# Altium footprint library axsem_actives_v1-9.PCBLIB: 17 footprints (part 1 of 2)
Each footprint in its own frame and in the unit in brackets; x right, y up, seen from the top. Pads: shape width x height; smd on the part's side, far side on the other; paste and mask are expansions set on the pad; w line width, h text height; cw(c..) or ccw(c..) is an arc to the next point about the centre after c.
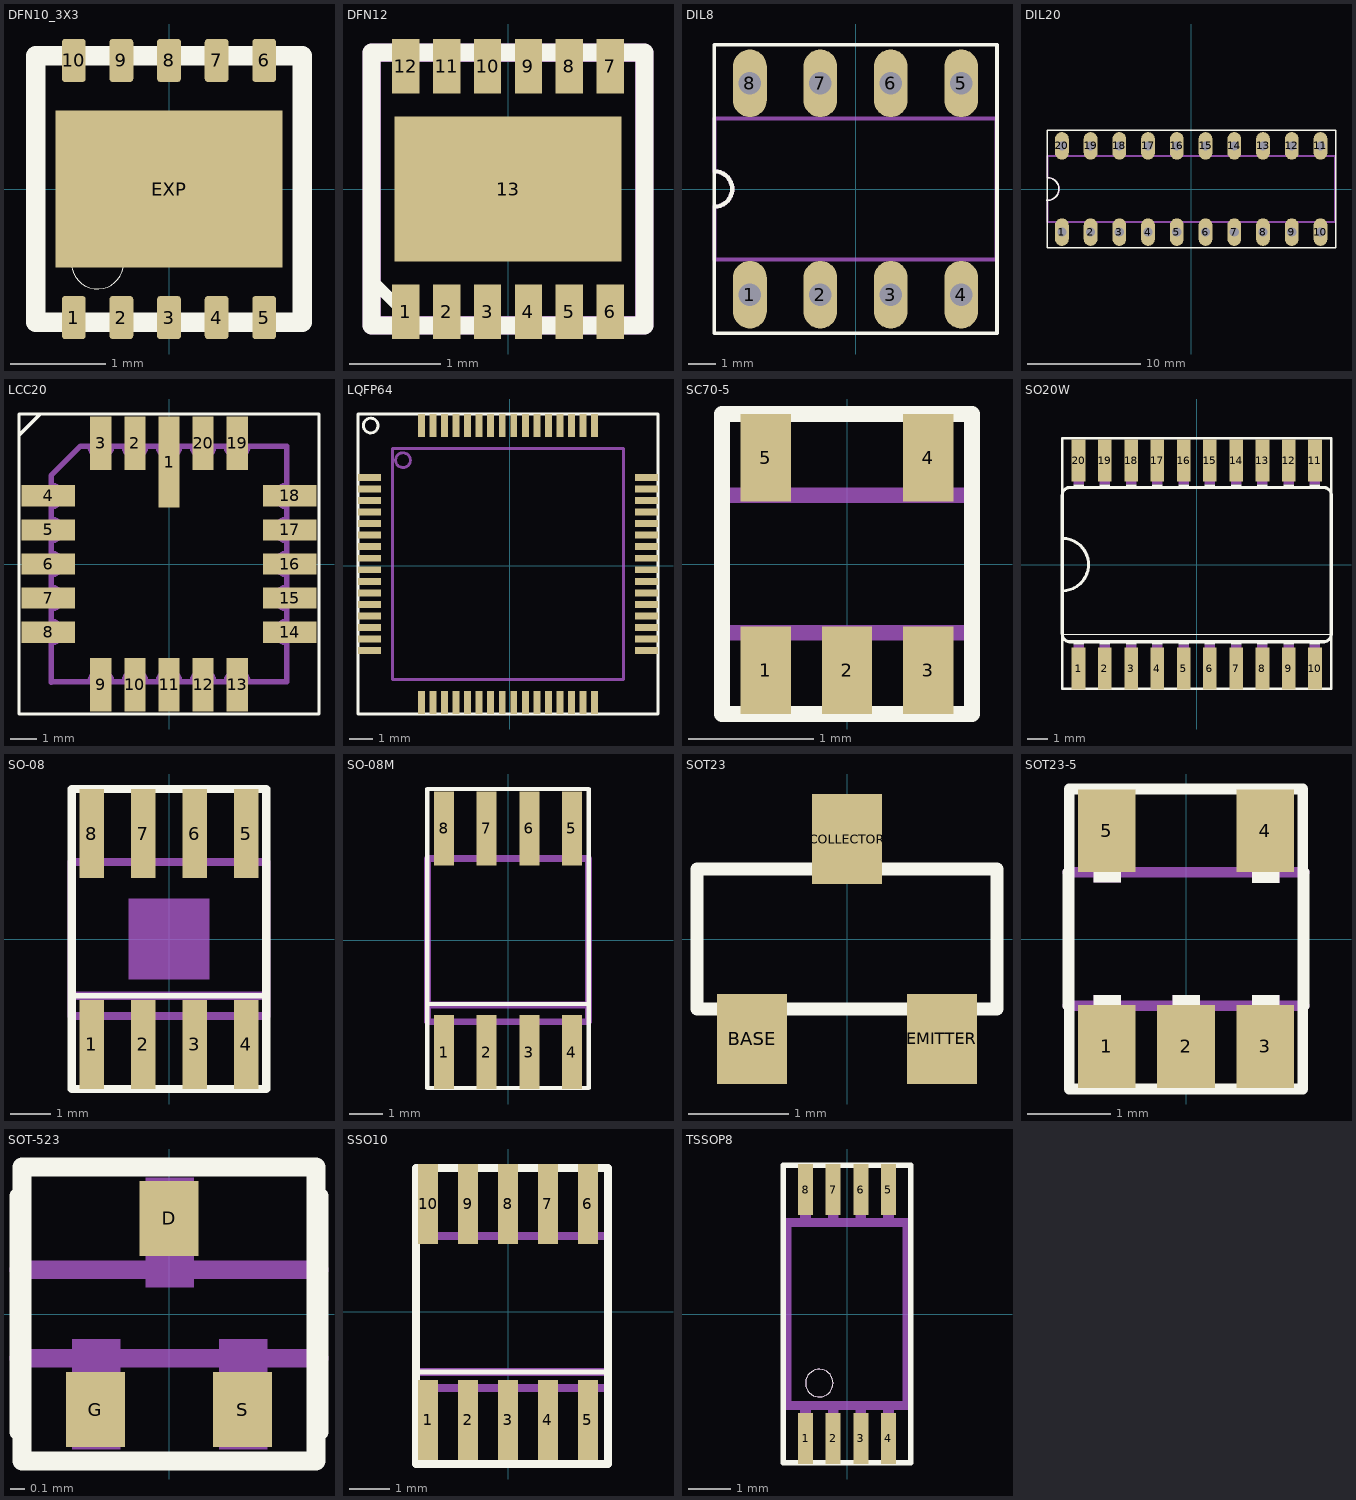
[diagram p0: the footprints below, top view; thin cyan lines are the x and y axes]

## DFN10_3X3 [mm]
pads (11):
  rrect25% 0.25x0.45 smd: 1(-1,-1.35) 2(-0.5,-1.35) 3(0,-1.35) 4(0.5,-1.35) 5(1,-1.35) 6(1,1.35) 7(0.5,1.35) 8(0,1.35) 9(-0.5,1.35) 10(-1,1.35)
  rect 2.38x1.65 smd: EXP(0,0)
Top Overlay:
  circle w0: c-0.75,-0.775 r0.275
  lines w0.203: -1.4,-1.4 -1.4,1.4 1.4,1.4 1.4,-1.4 -1.4,-1.4

## DFN12 [mm]
pads (13):
  rect 0.3x0.6 smd: 1(-1.125,-1.35) 2(-0.675,-1.35) 3(-0.225,-1.35) 4(0.225,-1.35) 5(0.675,-1.35) 6(1.125,-1.35) 7(1.125,1.35) 8(0.675,1.35) 9(0.225,1.35) 10(-0.225,1.35) 11(-0.675,1.35) 12(-1.125,1.35)
  rect 2.5x1.6 smd: 13(0,0)
Top Overlay:
  lines w0.127: -1.5,-1 -1,-1.5
  lines w0.2: -1.5,-1.5 -1,-1.5 1.5,-1.5 1.5,1.5 -1.5,1.5 -1.5,-1 -1.5,-1.5
Mechanical 16:
  lines w0.203: -1.5,-1.5 -1.5,1.5 1.5,1.5 1.5,-1.5 -1.5,-1.5

## DIL8 [mil]
pads (8):
  oval 48x96 hole 32: 1(-150,-150) 2(-50,-150) 3(50,-150) 4(150,-150) 5(150,150) 6(50,150) 7(-50,150) 8(-150,150)
Top Overlay:
  lines w5: -200.79,-204.72 200.79,-204.72 200.79,204.72 -200.79,204.72 -200.79,-204.72
  lines w6: -200,-25 ccw(c-200,0) -200,25
Mechanical 16:
  lines w6: -200,-100 -200,-25 ccw(c-200,0) -200,25 -200,100 200,100 200,-100 -200,-100

## DIL20 [mil]
pads (20):
  oval 48x96 hole 32: 1(-450,-150) 2(-350,-150) 3(-250,-150) 4(-150,-150) 5(-50,-150) 6(50,-150) 7(150,-150) 8(250,-150) 9(350,-150) 10(450,-150) 11(450,150) 12(350,150) 13(250,150) 14(150,150) 15(50,150) 16(-50,150) 17(-150,150) 18(-250,150) 19(-350,150) 20(-450,150)
Top Overlay:
  lines w5: -503.94,-39.37 ccw(c-500.01,-0.1) -500,39.37 ; -500,39.37 -500,-204.72 503.94,-204.72 503.94,204.72 -500,204.72 -500,39.37
Mechanical 16:
  lines w6: -500,-115 500,-115 500,115 -500,115 -500,40 cw(c-500,0) -500,-40 -500,-115

## LCC20 [mil]
pads (20):
  rect 31.5x133.86 smd: 1(0,149.61)
  rect 31.5x78.74 smd: 2(-50,177.17) 3(-100,177.17) 9(-100,-177.17) 10(-50,-177.17) 11(0,-177.17) 12(50,-177.17) 13(100,-177.17) 19(100,177.17) 20(50,177.17)
  rect 78.74x31.5 smd: 4(-177.17,100) 5(-177.17,50) 6(-177.17,0) 7(-177.17,-50) 8(-177.17,-100) 14(177.17,-100) 15(177.17,-50) 16(177.17,0) 17(177.17,50) 18(177.17,100)
Top Overlay:
  lines w5: -220.47,188.98 -220.47,220.47 -188.98,220.47 ; -220.47,188.98 -220.47,-220.47 220.47,-220.47 220.47,220.47 -188.98,220.47 ; -220.47,188.98 -188.98,220.47
Mechanical 16:
  lines w8: -173.23,-173.62 -173.23,-173.23 ; -173.23,-115.75 -173.23,-173.23 ; -173.23,-84.25 -173.23,-65.75 ; -173.23,-34.25 -173.23,-15.75 ; -173.23,15.75 -173.23,34.25 ; -173.23,65.75 -173.23,84.25 ; -173.23,115.75 -173.23,129.92 -129.92,173.23 -115.75,173.23 ; -173.17,-115.75 ccw(c-173.17,-100) -173.17,-84.25 ; -173.17,-65.75 ccw(c-173.17,-50) -173.17,-34.25 ; -173.17,-15.75 ccw(c-173.17,0) -173.17,15.75 ; -173.17,34.25 ccw(c-173.17,50) -173.17,65.75 ; -173.17,84.25 ccw(c-173.17,100) -173.17,115.75 ; -115.75,-173.23 -173.23,-173.23 ; -115.75,-173.17 cw(c-100,-173.17) -84.25,-173.17 ; -115.75,173.17 ccw(c-100,173.17) -84.25,173.17 ; -84.25,-173.23 -65.75,-173.23 ; -84.25,173.23 -65.75,173.23 ; -65.75,-173.17 cw(c-50,-173.17) -34.25,-173.17 ; -65.75,173.17 ccw(c-50,173.17) -34.25,173.17 ; -34.25,-173.23 -15.75,-173.23 ; -34.25,173.23 -15.75,173.23 ; -15.75,-173.17 cw(c0,-173.17) 15.75,-173.17 ; -15.75,173.17 ccw(c0,173.17) 15.75,173.17 ; 15.75,-173.23 34.25,-173.23 ; 15.75,173.23 34.25,173.23 ; 34.25,-173.17 cw(c50,-173.17) 65.75,-173.17 ; 34.25,173.17 ccw(c50,173.17) 65.75,173.17 ; 65.75,-173.23 84.25,-173.23 ; 65.75,173.23 84.25,173.23 ; 84.25,-173.17 cw(c100,-173.17) 115.75,-173.17 ; 84.25,173.17 ccw(c100,173.17) 115.75,173.17 ; 115.75,-173.23 173.23,-173.23 173.23,-115.75 ; 115.75,173.23 173.23,173.23 173.23,115.75 ; 173.17,-115.75 cw(c173.17,-100) 173.17,-84.25 ; 173.17,-65.75 cw(c173.17,-50) 173.17,-34.25 ; 173.17,-15.75 cw(c173.17,0) 173.17,15.75 ; 173.17,34.25 cw(c173.17,50) 173.17,65.75 ; 173.17,84.25 cw(c173.17,100) 173.17,115.75 ; 173.23,-84.25 173.23,-65.75 ; 173.23,-34.25 173.23,-15.75 ; 173.23,15.75 173.23,34.25 ; 173.23,65.75 173.23,84.25

## LQFP64 [mm]
pads (64):
  rect 1x0.3 smd: P1(-6.08,3.83) P2(-6.08,3.33) P3(-6.08,2.83) P4(-6.08,2.33) P5(-6.08,1.83) P6(-6.08,1.33) P7(-6.08,0.83) P8(-6.08,0.33) P9(-6.08,-0.17) P10(-6.08,-0.67) P11(-6.08,-1.17) P12(-6.08,-1.67) P13(-6.08,-2.17) P14(-6.08,-2.67) P15(-6.08,-3.17) P16(-6.08,-3.67) P33(5.92,-3.67) P34(5.92,-3.17) P35(5.92,-2.67) P36(5.92,-2.17) P37(5.92,-1.67) P38(5.92,-1.17) P39(5.92,-0.67) P40(5.92,-0.17) P41(5.92,0.33) P42(5.92,0.83) P43(5.92,1.33) P44(5.92,1.83) P45(5.92,2.33) P46(5.92,2.83) P47(5.92,3.33) P48(5.92,3.83)
  rect 0.3x1 smd: P17(-3.83,-5.92) P18(-3.33,-5.92) P19(-2.83,-5.92) P20(-2.33,-5.92) P21(-1.83,-5.92) P22(-1.33,-5.92) P23(-0.83,-5.92) P24(-0.33,-5.92) P25(0.17,-5.92) P26(0.67,-5.92) P27(1.17,-5.92) P28(1.67,-5.92) P29(2.17,-5.92) P30(2.67,-5.92) P31(3.17,-5.92) P32(3.67,-5.92) P49(3.67,6.08) P50(3.17,6.08) P51(2.67,6.08) P52(2.17,6.08) P53(1.67,6.08) P54(1.17,6.08) P55(0.67,6.08) P56(0.17,6.08) P57(-0.33,6.08) P58(-0.83,6.08) P59(-1.33,6.08) P60(-1.83,6.08) P61(-2.33,6.08) P62(-2.83,6.08) P63(-3.33,6.08) P64(-3.83,6.08)
Top Overlay:
  circle w0.127: c-6.03,6.08 r0.32
  lines w0.127: -6.58,-6.42 6.42,-6.42 6.42,6.58 -6.58,6.58 -6.58,-6.42
Mechanical 16:
  circle w0.127: c-4.63,4.58 r0.32
  lines w0.127: -5.08,-4.92 -5.08,5.08 4.92,5.08 4.92,-4.92 -5.08,-4.92

## SC70-5 [mm]
pads (5):
  rect 0.4x0.7 smd: 1(-0.65,-0.85) 2(0,-0.85) 3(0.65,-0.85) 4(0.65,0.85) 5(-0.65,0.85)
Top Overlay:
  lines w0.127: -1,-0.55 -1,0.55 ; -0.6,-1 -0.6,-0.7 ; -0.6,0.6 -0.6,0.9 ; 0,-1 0,-0.7 ; 0.6,-1 0.6,-0.7 ; 0.6,0.6 0.6,0.9 ; 1,-0.55 1,0.55 ; -1,-1.2 -1,1.2 1,1.2 1,-1.2 -1,-1.2
Mechanical 16:
  rectangle: -0.125,-1.05 0.125,-0.6
  rectangle: -0.775,-1.05 -0.525,-0.6
  rectangle: 0.525,-1.05 0.775,-0.6
  rectangle: -0.775,0.6 -0.525,1.05
  rectangle: 0.525,0.6 0.775,1.05
  lines w0.127: -1,-0.55 1,-0.55 ; -1,0.55 1,0.55

## SO20W [mil]
pads (20):
  rect 26x80 smd: 1(-225,-198) 2(-175,-198) 3(-125,-198) 4(-75,-198) 5(-25,-198) 6(25,-198) 7(75,-198) 8(125,-198) 9(175,-198) 10(225,-198) 11(225,198) 12(175,198) 13(125,198) 14(75,198) 15(25,198) 16(-25,198) 17(-75,198) 18(-125,198) 19(-175,198) 20(-225,198)
Top Overlay:
  rectangle: -235,-152 -215,-147
  rectangle: -185,-152 -165,-147
  rectangle: -135,-152 -115,-147
  rectangle: -85,-152 -65,-147
  rectangle: -35,-152 -15,-147
  rectangle: 15,-152 35,-147
  rectangle: 65,-152 85,-147
  rectangle: 115,-152 135,-147
  rectangle: -235,147 -215,152
  rectangle: -185,147 -165,152
  rectangle: -135,147 -115,152
  rectangle: -85,147 -65,152
  rectangle: -35,147 -15,152
  rectangle: 15,147 35,152
  rectangle: 65,147 85,152
  rectangle: 115,147 135,152
  rectangle: 165,147 185,152
  rectangle: 215,147 235,152
  rectangle: 165,-152 185,-147
  rectangle: 215,-152 235,-147
  lines w2: -255,-133 255,-133
  lines w5: -255.91,-236.22 255.91,-236.22 255.91,240.16 -255.91,240.16 -255.91,-236.22
  lines w6: -256,-50 -256,50 ; -256,-50 -256,-132 ccw(c-241,-132) -241,-147 241,-147 ccw(c241,-132) 256,-132 256,132 ccw(c241,132) 241,147 -241,147 ccw(c-241,132) -256,132 -256,50 ; -256,-50 ccw(c-256,0) -256,50
Mechanical 16:
  rectangle: -235,-210 -215,-152
  rectangle: -185,-210 -165,-152
  rectangle: -135,-210 -115,-152
  rectangle: -85,-210 -65,-152
  rectangle: -35,-210 -15,-152
  rectangle: 15,-210 35,-152
  rectangle: 65,-210 85,-152
  rectangle: 115,-210 135,-152
  rectangle: -235,152 -215,210
  rectangle: -185,152 -165,210
  rectangle: -135,152 -115,210
  rectangle: -85,152 -65,210
  rectangle: -35,152 -15,210
  rectangle: 15,152 35,210
  rectangle: 65,152 85,210
  rectangle: 115,152 135,210
  rectangle: 165,152 185,210
  rectangle: 215,152 235,210
  rectangle: 165,-210 185,-152
  rectangle: 215,-210 235,-152

## SO-08 [mm]
pads (8):
  rect 0.6x2.2 smd: 1(-1.905,-2.6) 2(-0.635,-2.6) 3(0.635,-2.6) 4(1.905,-2.6) 5(1.905,2.6) 6(0.635,2.6) 7(-0.635,2.6) 8(-1.905,2.6)
Top Overlay:
  lines w0.127: -2.4,-1.4 2.4,-1.4
  lines w0.2: -2.4,-3.7 2.4,-3.7 2.4,-1.4 2.4,3.7 -2.4,3.7 -2.4,-1.4 -2.4,-3.7
Mechanical 6:
  rectangle: -1,-1 1,1
Mechanical 13:
  text "IPC SO8" at -1.905,-0.935 h0.63
  text "JEDEC MS-012 AA" at -1.905,0.865 h0.47
Mechanical 16:
  rectangle: -2.15,-3.1 -1.66,-2
  rectangle: -0.88,-3.1 -0.39,-2
  rectangle: 0.39,-3.1 0.88,-2
  rectangle: 1.66,-3.1 2.15,-2
  rectangle: 1.66,2 2.15,3.1
  rectangle: 0.39,2 0.88,3.1
  rectangle: -0.88,2 -0.39,3.1
  rectangle: -2.15,2 -1.66,3.1
  lines w0.203: -2.4,-1.4 -2.4,-1.9 2.4,-1.9 2.4,-1.4 ; -2.4,-1.4 -2.4,1.9 2.4,1.9 2.4,-1.4 ; -2.4,-1.4 2.4,-1.4

## SO-08M [mm]
pads (8):
  rect 0.6x2.2 smd: 1(-1.905,-3.33) 2(-0.635,-3.33) 3(0.635,-3.33) 4(1.905,-3.33) 5(1.905,3.33) 6(0.635,3.33) 7(-0.635,3.33) 8(-1.905,3.33)
Top Overlay:
  lines w0.127: -2.4,-1.9 -2.4,-4.4 2.4,-4.4 2.4,-1.9 ; -2.4,-1.9 -2.4,4.5 2.4,4.5 2.4,-1.9 ; -2.4,-1.9 2.4,-1.9
Mechanical 13:
  text "SO8 Medium" at -1.905,-1.27 h0.47
  text "Microchip" at -2.005,1.565 h0.47
Mechanical 16:
  rectangle: -2.15,-4.05 -1.66,-2.53
  rectangle: -0.88,-4.05 -0.39,-2.53
  rectangle: 0.39,-4.05 0.88,-2.53
  rectangle: 1.66,-4.05 2.15,-2.53
  rectangle: 1.66,2.53 2.15,4.05
  rectangle: 0.39,2.53 0.88,4.05
  rectangle: -0.88,2.53 -0.39,4.05
  rectangle: -2.15,2.53 -1.66,4.05
  lines w0.203: -2.4,-1.93 -2.4,-2.43 2.4,-2.43 2.4,-1.93 ; -2.4,-1.93 -2.4,2.43 2.4,2.43 2.4,-1.93 ; -2.4,-1.93 2.4,-1.93

## SOT23 [mm]
pads (3):
  rect 0.7x0.9 smd: BASE(-0.95,-1) COLLECTOR(0,1) EMITTER(0.95,-1)
Top Overlay:
  lines w0.127: -1.5,-0.7 1.5,-0.7 1.5,0.7 -1.5,0.7 -1.5,-0.7

## SOT23-5 [mm]
pads (5):
  rect 0.69x0.99 smd: 1(-0.95,-1.29) 2(0,-1.29) 3(0.95,-1.29) 4(0.95,1.3) 5(-0.95,1.3)
Top Overlay:
  rectangle: -1.11,0.68 -0.78,1.43
  rectangle: 0.79,0.67 1.12,1.42
  rectangle: 0.79,-1.42 1.12,-0.67
  rectangle: -0.16,-1.42 0.17,-0.67
  rectangle: -1.11,-1.42 -0.78,-0.67
  lines w0.01: 0,-1.3 0,-1.29
  lines w0.127: -1.42,-0.8 -1.42,0.8 ; 1.42,-0.8 1.42,0.8 ; -1.4,-1.8 -1.4,1.8 1.4,1.8 1.4,-1.8 -1.4,-1.8
Mechanical 16:
  rectangle: -1.11,0.68 -0.78,1.43
  rectangle: 0.79,0.67 1.12,1.42
  rectangle: -1.11,-1.42 -0.78,-0.67
  rectangle: -0.16,-1.42 0.17,-0.67
  rectangle: 0.79,-1.42 1.12,-0.67
  lines w0.127: -1.42,-0.8 1.42,-0.8 ; -1.42,0.8 1.42,0.8

## SOT-523 [mm]
pads (3):
  rect 0.4x0.51 smd: D(0,0.65) G(-0.5,-0.65) S(0.5,-0.65)
Top Overlay:
  lines w0.127: -1.02,-0.8 -1.02,0.8 ; 1.02,-0.8 1.02,0.8 ; -1,-1 -1,1 1,1 1,-1 -1,-1
Mechanical 16:
  rectangle: -0.16,0.18 0.17,0.93
  rectangle: -0.66,-0.92 -0.33,-0.17
  rectangle: 0.34,-0.92 0.67,-0.17
  lines w0.127: -1.02,-0.3 1.02,-0.3 ; -1.02,0.3 1.02,0.3

## SSO10 [mm]
pads (10):
  rect 0.5x2 smd: 1(-2,-2.7) 2(-1,-2.7) 3(0,-2.7) 4(1,-2.7) 5(2,-2.7) 6(2,2.7) 7(1,2.7) 8(0,2.7) 9(-1,2.7) 10(-2,2.7)
Top Overlay:
  lines w0.127: -2.3,-1.5 2.5,-1.5
  lines w0.2: -2.3,-3.8 2.5,-3.8 2.5,-1.5 2.5,3.6 -2.3,3.6 -2.3,-1.5 -2.3,-3.8
Mechanical 16:
  lines w0.203: -2.3,-1.5 -2.3,-1.9 2.5,-1.9 2.5,-1.5 ; -2.3,-1.5 -2.3,1.9 2.5,1.9 2.5,-1.5 ; -2.3,-1.5 2.5,-1.5

## SSOP5 [mm]

## TSSOP8 [mm]
pads (8):
  rect 0.35x1.2 smd: 1(-0.975,-2.925) 2(-0.325,-2.925) 3(0.325,-2.925) 4(0.975,-2.925) 5(0.975,2.925) 6(0.325,2.925) 7(-0.325,2.925) 8(-0.975,2.925)
Top Overlay:
  circle w0: c-0.65,-1.625 r0.325
  lines w0.127: -1.5,-3.5 1.5,-3.5 1.5,3.5 -1.5,3.5 -1.5,-3.5
Mechanical 16:
  circle w0: c-0.65,-1.625 r0.325
  rectangle: -1.1,-3.2 -0.85,-2.2
  rectangle: -0.45,-3.2 -0.2,-2.2
  rectangle: 0.2,-3.2 0.45,-2.2
  rectangle: 0.85,-3.2 1.1,-2.2
  rectangle: 0.85,2.2 1.1,3.2
  rectangle: 0.2,2.2 0.45,3.2
  rectangle: -0.45,2.2 -0.2,3.2
  rectangle: -1.1,2.2 -0.85,3.2
  lines w0.203: -1.4,-2.15 -1.4,2.15 1.4,2.15 1.4,-2.15 -1.4,-2.15